# EAGLE library part SN75ALS174ADWR (library SSW-130-01-G-S)
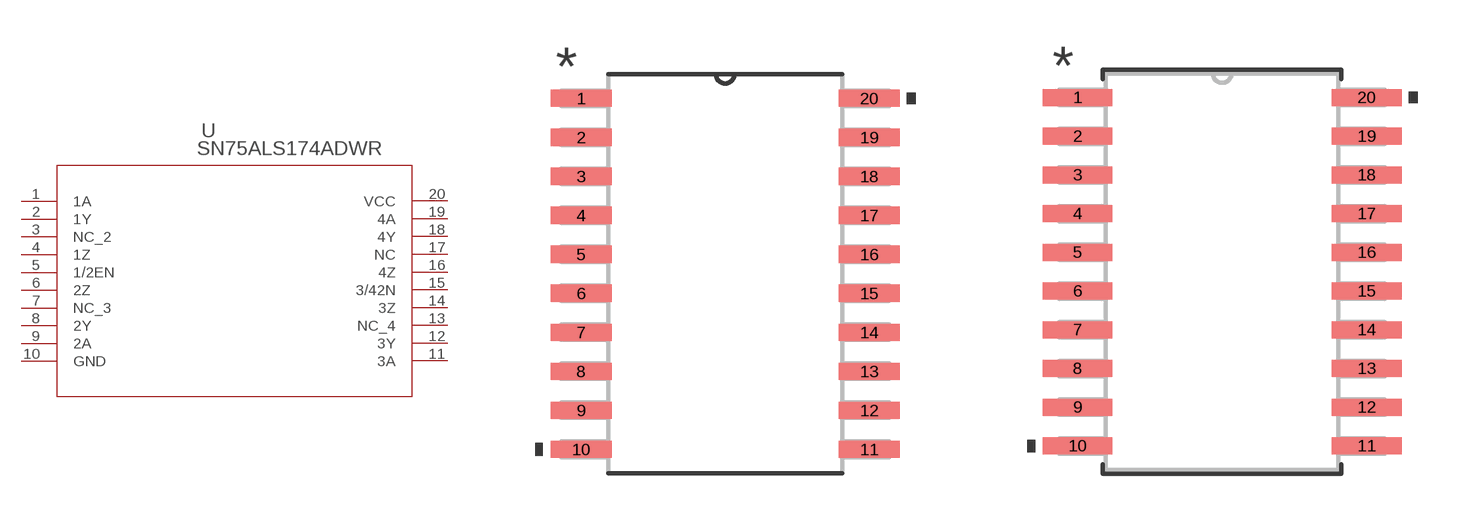
[diagram p3: symbol with the pads of DW20; footprints DW20, DW20-M]

Designator prefix U

## SN75ALS174ADWR (COPYRIGHT: Copyright (C) 2024 Ultra Librarian. All rights reserved.; MANUFACTURER_PART_NUMBER: SN75ALS174ADWR; MFR_NAME: Texas Instruments)  [DW20]
1  1A  in
2  1Y  out
3  NC_2  pas
4  1Z  out
5  1/2EN  pas
6  2Z  out
7  NC_3  pas
8  2Y  out
9  2A  in
10  GND  pwr
11  3A  in
12  3Y  out
13  NC_4  pas
14  3Z  out
15  3/42N  pas
16  4Z  out
17  NC  pas
18  4Y  out
19  4A  in
20  VCC  pwr

## SN75ALS174ADWRDW20-M (COPYRIGHT: Copyright (C) 2024 Ultra Librarian. All rights reserved.; MANUFACTURER_PART_NUMBER: SN75ALS174ADWR; MFR_NAME: Texas Instruments)  [DW20-M]
Pads as for DW20

## SN75ALS174ADWRDW20-L (COPYRIGHT: Copyright (C) 2024 Ultra Librarian. All rights reserved.; MANUFACTURER_PART_NUMBER: SN75ALS174ADWR; MFR_NAME: Texas Instruments)  [DW20-L]
Pads as for DW20

## Footprint DW20 (pad centres in mm)
smd 1.981 x 0.559: 1 -4.686,5.715; 2 -4.686,4.445; 3 -4.686,3.175; 4 -4.686,1.905; 5 -4.686,0.635; 6 -4.686,-0.635; 7 -4.686,-1.905; 8 -4.686,-3.175; 9 -4.686,-4.445; 10 -4.686,-5.715; 11 4.686,-5.715; 12 4.686,-4.445; 13 4.686,-3.175; 14 4.686,-1.905; 15 4.686,-0.635; 16 4.686,0.635; 17 4.686,1.905; 18 4.686,3.175; 19 4.686,4.445; 20 4.686,5.715

## Footprint DW20-M (pad centres in mm)
smd 2.286 x 0.559: 1 -4.737,5.715; 2 -4.737,4.445; 3 -4.737,3.175; 4 -4.737,1.905; 5 -4.737,0.635; 6 -4.737,-0.635; 7 -4.737,-1.905; 8 -4.737,-3.175; 9 -4.737,-4.445; 10 -4.737,-5.715; 11 4.737,-5.715; 12 4.737,-4.445; 13 4.737,-3.175; 14 4.737,-1.905; 15 4.737,-0.635; 16 4.737,0.635; 17 4.737,1.905; 18 4.737,3.175; 19 4.737,4.445; 20 4.737,5.715

## Footprint DW20-L (pad centres in mm)
smd 1.676 x 0.508: 1 -4.636,5.715; 2 -4.636,4.445; 3 -4.636,3.175; 4 -4.636,1.905; 5 -4.636,0.635; 6 -4.636,-0.635; 7 -4.636,-1.905; 8 -4.636,-3.175; 9 -4.636,-4.445; 10 -4.636,-5.715; 11 4.636,-5.715; 12 4.636,-4.445; 13 4.636,-3.175; 14 4.636,-1.905; 15 4.636,-0.635; 16 4.636,0.635; 17 4.636,1.905; 18 4.636,3.175; 19 4.636,4.445; 20 4.636,5.715